# Altium footprint library ICs.PcbLib: 3 footprints
Each footprint in its own frame and in the unit in brackets; x right, y up, seen from the top. Pads: shape width x height; smd on the part's side, far side on the other; paste and mask are expansions set on the pad; w line width, h text height; cw(c..) or ccw(c..) is an arc to the next point about the centre after c.
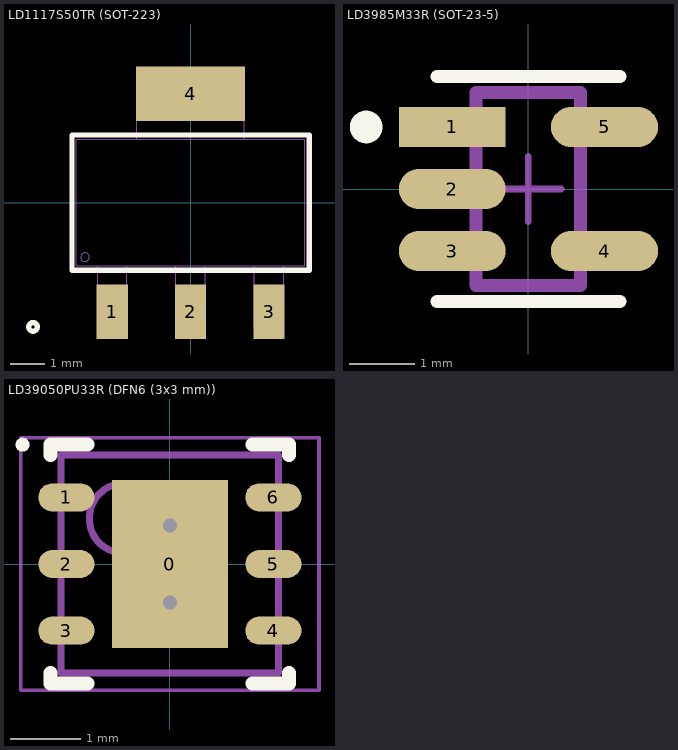
[diagram p0: the footprints below, top view; thin cyan lines are the x and y axes]

## LD1117S50TR (SOT-223) [mil]
pads (4):
  rect 36x63 smd paste+0 mask+0: 1(-90.55,-126) 2(0,-126) 3(90.55,-126)
  rect 125.98x62.99 smd paste-99999 mask+0: 4(0,125.98)
Top Overlay:
  circle w6: c-182,-143.5 r5
  lines w6: -137,-78 -137,78 137,78 137,-78 -137,-78
Top Paste:
  region: 63,94.5 63,157.5 -63,157.5 -63,94.5
Top Solder:
  region: 64,80.5 64,171.5 -64,171.5 -64,80.5
Top 3D Body:
  circle w0: c-122,-63 r5
  lines w1: -132,-73 -132,73 132,73 132,-73 -132,-73 ; -107.55,-143.5 -73.55,-143.5 -73.55,-73 -107.55,-73 -107.55,-143.5 ; -62,73 -62,143.5 62,143.5 62,73 -62,73 ; -17,-143.5 17,-143.5 17,-73 -17,-73 -17,-143.5 ; 73.55,-143.5 107.55,-143.5 107.55,-73 73.55,-73 73.55,-143.5
3D body "SOT-223_STM.step": height 71.1, standoff 0, extent -132.01,-143.5 132.01,143.5

## LD3985M33R (SOT-23-5) [mil]
pads (5):
  rect 64.5x24.1 smd paste+0 mask+0: 1(-45.91,37.4)
  rrect100% 64.5x24.1 smd paste+0 mask+0: 2(-45.91,0) 3(-45.91,-37.4) 4(45.91,-37.4) 5(45.91,37.4)
Top Overlay:
  circle w9.84: c-97.85,37.4 r4.92
  lines w7.87: -55.12,-67.91 55.12,-67.91 ; -55.12,67.91 55.12,67.91
Top 3D Body:
  lines w7.87: -31.5,-58.07 -31.5,58.07 31.5,58.07 31.5,-58.07 -31.5,-58.07
Top Component Center:
  lines w3.94: -19.68,0 19.68,0 ; 0,-19.68 0,19.68
3D body "IC_STMicroelectronics_LD3985M33R_eec.STEP": height 10, standoff 0, extent -97.85,-77.76 97.85,77.76

## LD39050PU33R (DFN6 (3x3 mm)) [mm]
pads (7):
  rect 1.65x2.4 smd mask+0.05: 0(0,0)
  oval 0.8x0.4 smd mask+0.05: 1(-1.475,0.95) 2(-1.475,0) 3(-1.475,-0.95) 4(1.475,-0.95) 5(1.475,0) 6(1.475,0.95)
via 0,0.55 diameter 0.5 hole 0.2
via 0,-0.55 diameter 0.5 hole 0.2
Top Overlay:
  circle w0.1: c-2.1,1.7 r0.05
  lines w0.2: -1.7,-1.55 -1.7,-1.7 -1.175,-1.7 ; -1.7,1.55 -1.7,1.7 -1.175,1.7 ; 1.175,-1.7 1.7,-1.7 1.7,-1.55 ; 1.175,1.7 1.7,1.7 1.7,1.55
Top 3D Body:
  circle w0.1: c-0.65,0.65 r0.5
  lines w0.1: -1.55,-1.55 -1.55,1.55 1.55,1.55 1.55,-1.55 -1.55,-1.55
Mechanical 15:
  lines w0.05: -2.125,-1.8 -2.125,1.8 2.125,1.8 2.125,-1.8 -2.125,-1.8
  lines w0.1: -0.5,0 0.5,0 ; 0,-0.5 0,0.5
3D body: height 0.95, standoff 0, extent -1.55,-1.55 1.55,1.55